# Altium integrated library Linear Technology Operational Amplifiers (LT2000-LT6000).IntLib: 1710 symbols (part 69 of 75)
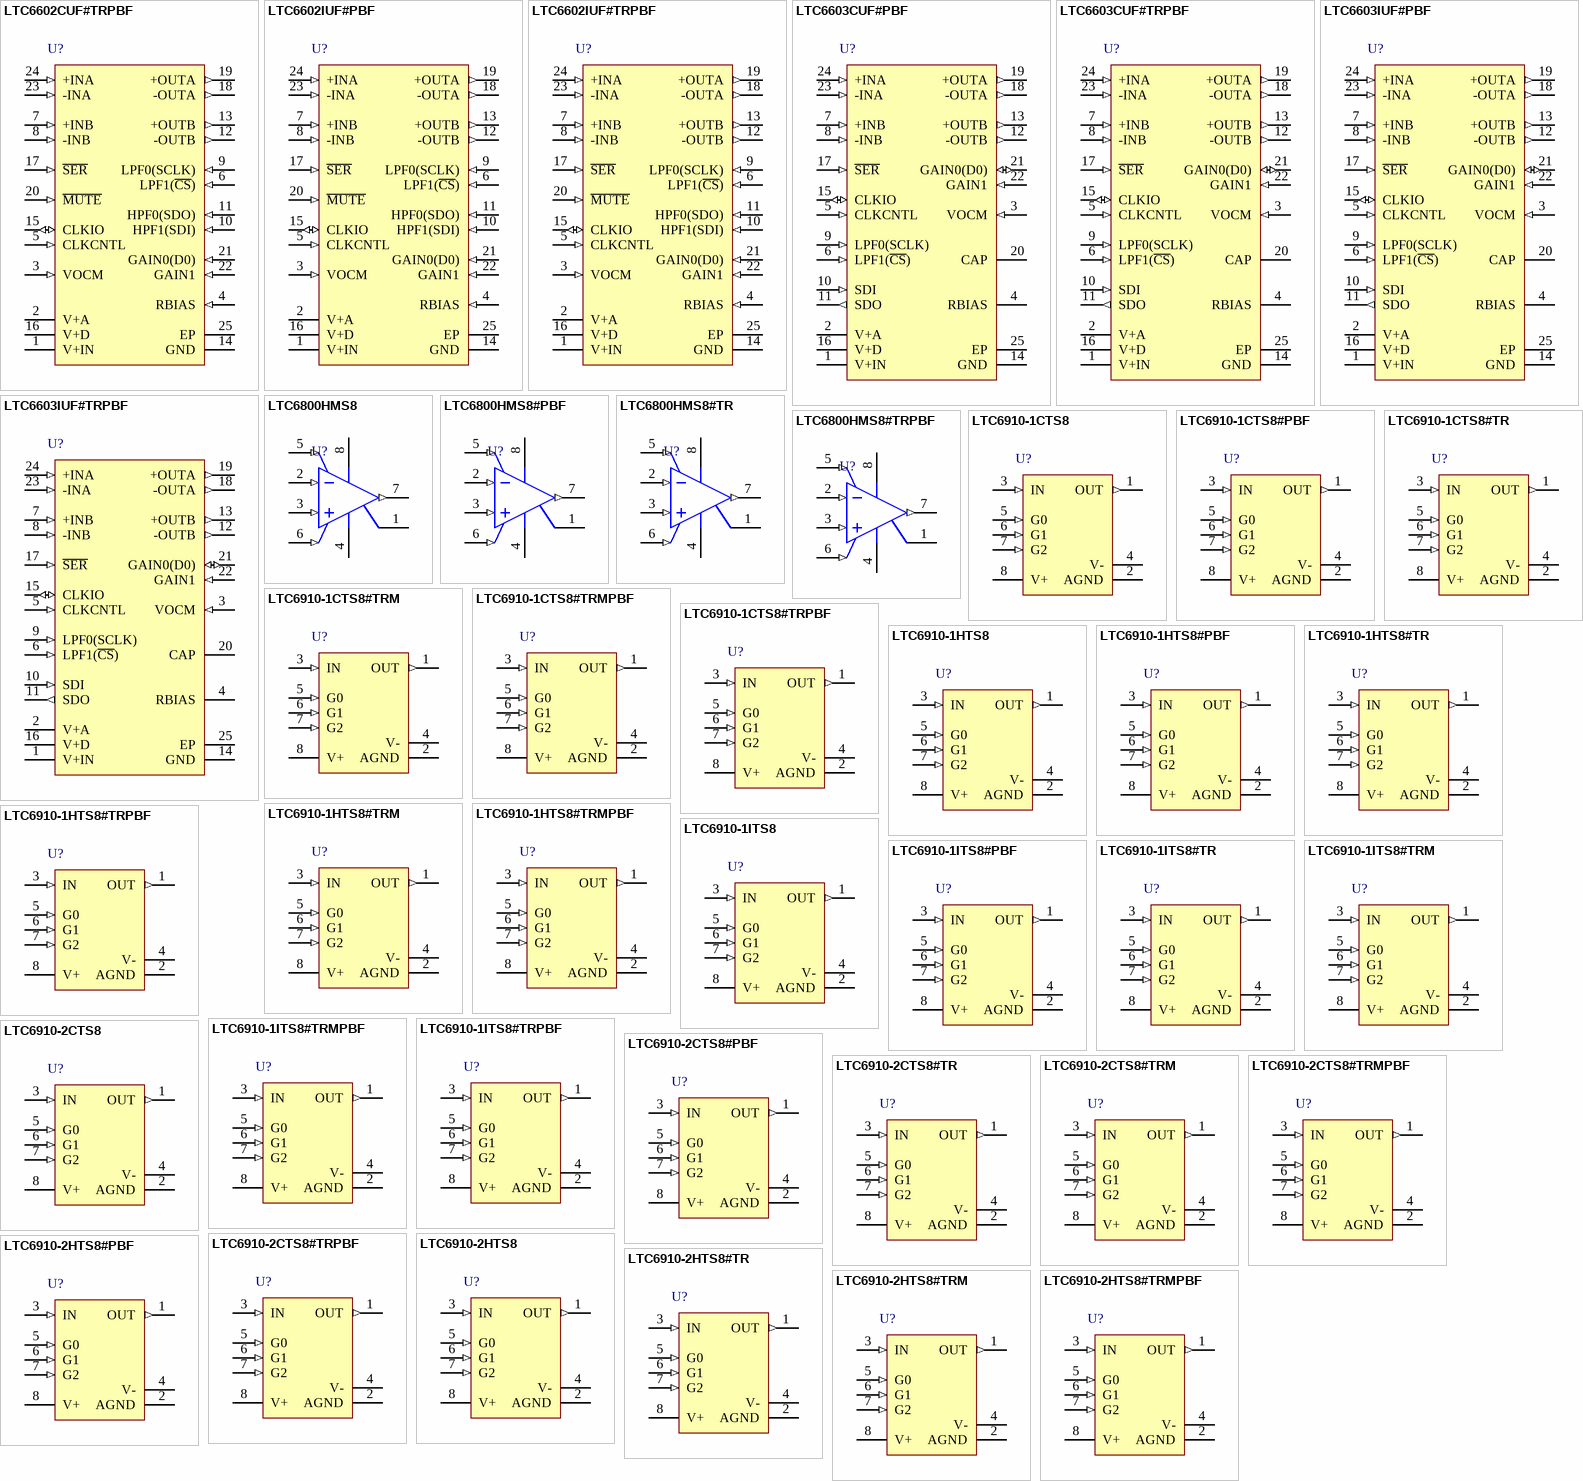
[diagram p148: symbols LTC6602CUF#TRPBF to LTC6910-2HTS8#TRMPBF]

## LTC6800HMS8#TR
designator U?
Single Channel, Zero-Drift, Instrumentation Amplifier, RRIO, 0.2 MHz Typical GBW, 0.2 V/us Typical SR, 2.7 to 5.5 V, 8-Pin SOP (MS8-8), High Temperature / Automotive, Reel; Linear Technology Part Number: LTC6800; Manufacturer: Linear Technology; PartNumber: LTC6800HMS8#TR; Channels (#): 1; GBW (MHz) Typical: 0.2; Is (mA) Typical: 0.95; Vos (mV) Typical: 0.1; Vs Max (V): 5.5; Vs Min (V): 2.7; DatasheetVersion: Rev. B; PackageVersion: Rev G; PackageReference: LT-MS8-8; PackageDescription: 8-Lead Plastic Small Outline, Body 3.9 x 4.9 mm, Pitch 1.27 mm; Supplier 1: Digi-Key; Supplier Part Number 1: LTC6800HMS8#TR-ND; Packing: Reel; SR (V/us) Typical: 0.2; Type: ZD, IA; Mounting Technology: Surface Mount; ComponentLink1Description: Manufacturer URL; ComponentLink1URL: http://www.linear.com/; ComponentLink2Description: Datasheet; ComponentLink2URL: http://cds.linear.com/docs/en/datasheet/6800fb.pdf; ComponentLink3Description: Package Specification; ComponentLink3URL: http://cds.linear.com/docs/en/packaging/05081610_G_SO8.pdf
footprint LT-MS8-8_N (SOP, 8-Leads, Body 3x3mm, Pitch 0.65mm, IPC Medium Density)
footprint LT-MS8-8_L (SOP, 8-Leads, Body 3x3mm, Pitch 0.65mm, IPC High Density)
footprint LT-MS8-8_M (SOP, 8-Leads, Body 3x3mm, Pitch 0.65mm, IPC Low Density)
pins: 1 NC "Not Connected.", 2 -IN (in) "Inverting Input.", 3 +IN (in) "Noninverting Input.", 4 V- (power) "Negative Supply.", 5 REF (in) "Voltage Reference (VREF) for Amplifier Output.", 6 RG (in) "Inverting Input of Internal Op Amp.", 7 OUT (out) "Amplifier Output.", 8 V+ (power) "Positive Supply."

## LTC6800HMS8#TRPBF
designator U?
Single Channel, Zero-Drift, Instrumentation Amplifier, RRIO, 0.2 MHz Typical GBW, 0.2 V/us Typical SR, 2.7 to 5.5 V, 8-Pin SOP (MS8-8), High Temperature / Automotive, Pb-Free, Reel; Linear Technology Part Number: LTC6800; Manufacturer: Linear Technology; PartNumber: LTC6800HMS8#TRPBF; Channels (#): 1; GBW (MHz) Typical: 0.2; Is (mA) Typical: 0.95; Vos (mV) Typical: 0.1; Vs Max (V): 5.5; Vs Min (V): 2.7; DatasheetVersion: Rev. B; PackageVersion: Rev G; PackageReference: LT-MS8-8; PackageDescription: 8-Lead Plastic Small Outline, Body 3.9 x 4.9 mm, Pitch 1.27 mm; Supplier 1: Digi-Key; Supplier Part Number 1: LTC6800HMS8#TRPBF-ND; Packing: Reel; RoHS: Pb-Free; SR (V/us) Typical: 0.2; Type: ZD, IA; Mounting Technology: Surface Mount; ComponentLink1Description: Manufacturer URL; ComponentLink1URL: http://www.linear.com/; ComponentLink2Description: Datasheet; ComponentLink2URL: http://cds.linear.com/docs/en/datasheet/6800fb.pdf; ComponentLink3Description: Package Specification; ComponentLink3URL: http://cds.linear.com/docs/en/packaging/05081610_G_SO8.pdf
footprint LT-MS8-8_N (SOP, 8-Leads, Body 3x3mm, Pitch 0.65mm, IPC Medium Density)
footprint LT-MS8-8_L (SOP, 8-Leads, Body 3x3mm, Pitch 0.65mm, IPC High Density)
footprint LT-MS8-8_M (SOP, 8-Leads, Body 3x3mm, Pitch 0.65mm, IPC Low Density)
pins: 1 NC "Not Connected.", 2 -IN (in) "Inverting Input.", 3 +IN (in) "Noninverting Input.", 4 V- (power) "Negative Supply.", 5 REF (in) "Voltage Reference (VREF) for Amplifier Output.", 6 RG (in) "Inverting Input of Internal Op Amp.", 7 OUT (out) "Amplifier Output.", 8 V+ (power) "Positive Supply."

## LTC6910-1CTS8
designator U?
Single Channel, Digitally Controlled Programmable Gain Amplifier, 11 MHz Typical GBW, 16 V/us Typical SR, 2.7 to 11 V, 8-Pin SOT23 (TS8-8), Commercial; Linear Technology Part Number: LTC6910-1; Manufacturer: Linear Technology; PartNumber: LTC6910-1CTS8; Channels (#): 1; GBW (MHz) Typical: 11; Is (mA) Typical: 2; SR (V/us) Typical: 16; Vos (mV) Typical: 3; Vs Min (V): 2.7; DatasheetVersion: Rev. A; PackageVersion: Rev A; PackageReference: LT-TS8-8-TSOT-23; PackageDescription: 8-Lead Plastic TSOT-23, Body 2.9 x 1.63 mm, Pitch 0.65 mm; Type: PGA; Vs Max (V): 11; Mounting Technology: Surface Mount; Code_JEDEC: MO-193; ComponentLink1Description: Manufacturer URL; ComponentLink1URL: http://www.linear.com/; ComponentLink2Description: Datasheet; ComponentLink2URL: http://cds.linear.com/docs/en/datasheet/6910123fa.pdf; ComponentLink3Description: Package Specification; ComponentLink3URL: http://cds.linear.com/docs/en/packaging/SOT_8_05-08-1637.pdf
footprint LT-TS8-8-TSOT-23_V (SOT23, 8-Leads, Body 2.90x1.63mm, Pitch 0.65mm, IPC High Density, Recommended)
pins: 1 OUT (out) "Analog Output. This is the output of an internal operational amplifier and swings to near the power supply rails (V+ and V-) as specified in the Electrical Characteristics table.", 2 AGND (power) "Analog Ground. The AGND pin is at the midpoint of an internal resistive voltage divider, develop- ing a potential halfway between the V+ and V- pins, with an equivalent series resistance to the pin of nominally 5k ohm.", 3 IN (in) "Analog Input. The input signal to the amplifier in the LTC6910-X is the voltage difference between the IN and AGND pins.", 4 V- (power) "Power Supply Pin.", 5 G0 (in) "CMOS-Level Digital Gain- Control Input.", 6 G1 (in) "CMOS-Level Digital Gain- Control Input.", 7 G2 (in) "CMOS-Level Digital Gain- Control Input.", 8 V+ (power) "Power Supply Pin."

## LTC6910-1CTS8#PBF
designator U?
Single Channel, Digitally Controlled Programmable Gain Amplifier, 11 MHz Typical GBW, 16 V/us Typical SR, 2.7 to 11 V, 8-Pin SOT23 (TS8-8), Commercial, Pb-Free; Linear Technology Part Number: LTC6910-1; Manufacturer: Linear Technology; PartNumber: LTC6910-1CTS8#PBF; Channels (#): 1; GBW (MHz) Typical: 11; Is (mA) Typical: 2; SR (V/us) Typical: 16; Vos (mV) Typical: 3; Vs Min (V): 2.7; DatasheetVersion: Rev. A; PackageVersion: Rev A; PackageReference: LT-TS8-8-TSOT-23; PackageDescription: 8-Lead Plastic TSOT-23, Body 2.9 x 1.63 mm, Pitch 0.65 mm; Supplier 1: Newark; Supplier Part Number 1: 69W6146; Supplier 2: Newark; Supplier Part Number 2: 05R9899; RoHS: Pb-Free; Type: PGA; Vs Max (V): 11; Mounting Technology: Surface Mount; Code_JEDEC: MO-193; ComponentLink1Description: Manufacturer URL; ComponentLink1URL: http://www.linear.com/; ComponentLink2Description: Datasheet; ComponentLink2URL: http://cds.linear.com/docs/en/datasheet/6910123fa.pdf; ComponentLink3Description: Package Specification; ComponentLink3URL: http://cds.linear.com/docs/en/packaging/SOT_8_05-08-1637.pdf
footprint LT-TS8-8-TSOT-23_V (SOT23, 8-Leads, Body 2.90x1.63mm, Pitch 0.65mm, IPC High Density, Recommended)
pins: 1 OUT (out) "Analog Output. This is the output of an internal operational amplifier and swings to near the power supply rails (V+ and V-) as specified in the Electrical Characteristics table.", 2 AGND (power) "Analog Ground. The AGND pin is at the midpoint of an internal resistive voltage divider, develop- ing a potential halfway between the V+ and V- pins, with an equivalent series resistance to the pin of nominally 5k ohm.", 3 IN (in) "Analog Input. The input signal to the amplifier in the LTC6910-X is the voltage difference between the IN and AGND pins.", 4 V- (power) "Power Supply Pin.", 5 G0 (in) "CMOS-Level Digital Gain- Control Input.", 6 G1 (in) "CMOS-Level Digital Gain- Control Input.", 7 G2 (in) "CMOS-Level Digital Gain- Control Input.", 8 V+ (power) "Power Supply Pin."

## LTC6910-1CTS8#TR
designator U?
Single Channel, Digitally Controlled Programmable Gain Amplifier, 11 MHz Typical GBW, 16 V/us Typical SR, 2.7 to 11 V, 8-Pin SOT23 (TS8-8), Commercial, Reel; Linear Technology Part Number: LTC6910-1; Manufacturer: Linear Technology; PartNumber: LTC6910-1CTS8#TR; Channels (#): 1; GBW (MHz) Typical: 11; Is (mA) Typical: 2; SR (V/us) Typical: 16; Vos (mV) Typical: 3; Vs Min (V): 2.7; DatasheetVersion: Rev. A; PackageVersion: Rev A; PackageReference: LT-TS8-8-TSOT-23; PackageDescription: 8-Lead Plastic TSOT-23, Body 2.9 x 1.63 mm, Pitch 0.65 mm; Supplier 1: Digi-Key; Supplier Part Number 1: LTC6910-1CTS8#TR-ND; Packing: Reel; Type: PGA; Vs Max (V): 11; Mounting Technology: Surface Mount; Code_JEDEC: MO-193; ComponentLink1Description: Manufacturer URL; ComponentLink1URL: http://www.linear.com/; ComponentLink2Description: Datasheet; ComponentLink2URL: http://cds.linear.com/docs/en/datasheet/6910123fa.pdf; ComponentLink3Description: Package Specification; ComponentLink3URL: http://cds.linear.com/docs/en/packaging/SOT_8_05-08-1637.pdf
footprint LT-TS8-8-TSOT-23_V (SOT23, 8-Leads, Body 2.90x1.63mm, Pitch 0.65mm, IPC High Density, Recommended)
pins: 1 OUT (out) "Analog Output. This is the output of an internal operational amplifier and swings to near the power supply rails (V+ and V-) as specified in the Electrical Characteristics table.", 2 AGND (power) "Analog Ground. The AGND pin is at the midpoint of an internal resistive voltage divider, develop- ing a potential halfway between the V+ and V- pins, with an equivalent series resistance to the pin of nominally 5k ohm.", 3 IN (in) "Analog Input. The input signal to the amplifier in the LTC6910-X is the voltage difference between the IN and AGND pins.", 4 V- (power) "Power Supply Pin.", 5 G0 (in) "CMOS-Level Digital Gain- Control Input.", 6 G1 (in) "CMOS-Level Digital Gain- Control Input.", 7 G2 (in) "CMOS-Level Digital Gain- Control Input.", 8 V+ (power) "Power Supply Pin."

## LTC6910-1CTS8#TRM
designator U?
Single Channel, Digitally Controlled Programmable Gain Amplifier, 11 MHz Typical GBW, 16 V/us Typical SR, 2.7 to 11 V, 8-Pin SOT23 (TS8-8), Commercial, Mini Reel; Linear Technology Part Number: LTC6910-1; Manufacturer: Linear Technology; PartNumber: LTC6910-1CTS8#TRM; Channels (#): 1; GBW (MHz) Typical: 11; Is (mA) Typical: 2; SR (V/us) Typical: 16; Vos (mV) Typical: 3; Vs Min (V): 2.7; DatasheetVersion: Rev. A; PackageVersion: Rev A; PackageReference: LT-TS8-8-TSOT-23; PackageDescription: 8-Lead Plastic TSOT-23, Body 2.9 x 1.63 mm, Pitch 0.65 mm; Supplier 1: Digi-Key; Supplier Part Number 1: LTC6910-1CTS8#TRMTR-ND; Supplier 2: Digi-Key; Supplier Part Number 2: LTC6910-1CTS8#TRMCT-ND; Packing: Mini Reel; Type: PGA; Vs Max (V): 11; Mounting Technology: Surface Mount; Code_JEDEC: MO-193; ComponentLink1Description: Manufacturer URL; ComponentLink1URL: http://www.linear.com/; ComponentLink2Description: Datasheet; ComponentLink2URL: http://cds.linear.com/docs/en/datasheet/6910123fa.pdf; ComponentLink3Description: Package Specification; ComponentLink3URL: http://cds.linear.com/docs/en/packaging/SOT_8_05-08-1637.pdf
footprint LT-TS8-8-TSOT-23_V (SOT23, 8-Leads, Body 2.90x1.63mm, Pitch 0.65mm, IPC High Density, Recommended)
pins: 1 OUT (out) "Analog Output. This is the output of an internal operational amplifier and swings to near the power supply rails (V+ and V-) as specified in the Electrical Characteristics table.", 2 AGND (power) "Analog Ground. The AGND pin is at the midpoint of an internal resistive voltage divider, develop- ing a potential halfway between the V+ and V- pins, with an equivalent series resistance to the pin of nominally 5k ohm.", 3 IN (in) "Analog Input. The input signal to the amplifier in the LTC6910-X is the voltage difference between the IN and AGND pins.", 4 V- (power) "Power Supply Pin.", 5 G0 (in) "CMOS-Level Digital Gain- Control Input.", 6 G1 (in) "CMOS-Level Digital Gain- Control Input.", 7 G2 (in) "CMOS-Level Digital Gain- Control Input.", 8 V+ (power) "Power Supply Pin."

## LTC6910-1CTS8#TRMPBF
designator U?
Single Channel, Digitally Controlled Programmable Gain Amplifier, 11 MHz Typical GBW, 16 V/us Typical SR, 2.7 to 11 V, 8-Pin SOT23 (TS8-8), Commercial, Pb-Free, Mini Reel; Linear Technology Part Number: LTC6910-1; Manufacturer: Linear Technology; PartNumber: LTC6910-1CTS8#TRMPBF; Channels (#): 1; GBW (MHz) Typical: 11; Is (mA) Typical: 2; SR (V/us) Typical: 16; Vos (mV) Typical: 3; Vs Min (V): 2.7; DatasheetVersion: Rev. A; PackageVersion: Rev A; PackageReference: LT-TS8-8-TSOT-23; PackageDescription: 8-Lead Plastic TSOT-23, Body 2.9 x 1.63 mm, Pitch 0.65 mm; Supplier 1: Digi-Key; Supplier Part Number 1: LTC6910-1CTS8#TRMPBFTR-ND; Supplier 2: Digi-Key; Supplier Part Number 2: LTC6910-1CTS8#TRMPBFCT-ND; Supplier 3: Digi-Key; Supplier Part Number 3: LTC6910-1CTS8#TRMPBFDKR-ND; Supplier 4: Farnell; Supplier Part Number 4: 1663930; Supplier 5: Farnell; Supplier Part Number 5: 1663930RL; Packing: Mini Reel; RoHS: Pb-Free; Type: PGA; Vs Max (V): 11; Mounting Technology: Surface Mount; Code_JEDEC: MO-193; ComponentLink1Description: Manufacturer URL; ComponentLink1URL: http://www.linear.com/; ComponentLink2Description: Datasheet; ComponentLink2URL: http://cds.linear.com/docs/en/datasheet/6910123fa.pdf; ComponentLink3Description: Package Specification; ComponentLink3URL: http://cds.linear.com/docs/en/packaging/SOT_8_05-08-1637.pdf
footprint LT-TS8-8-TSOT-23_V (SOT23, 8-Leads, Body 2.90x1.63mm, Pitch 0.65mm, IPC High Density, Recommended)
pins: 1 OUT (out) "Analog Output. This is the output of an internal operational amplifier and swings to near the power supply rails (V+ and V-) as specified in the Electrical Characteristics table.", 2 AGND (power) "Analog Ground. The AGND pin is at the midpoint of an internal resistive voltage divider, develop- ing a potential halfway between the V+ and V- pins, with an equivalent series resistance to the pin of nominally 5k ohm.", 3 IN (in) "Analog Input. The input signal to the amplifier in the LTC6910-X is the voltage difference between the IN and AGND pins.", 4 V- (power) "Power Supply Pin.", 5 G0 (in) "CMOS-Level Digital Gain- Control Input.", 6 G1 (in) "CMOS-Level Digital Gain- Control Input.", 7 G2 (in) "CMOS-Level Digital Gain- Control Input.", 8 V+ (power) "Power Supply Pin."

## LTC6910-1CTS8#TRPBF
designator U?
Single Channel, Digitally Controlled Programmable Gain Amplifier, 11 MHz Typical GBW, 16 V/us Typical SR, 2.7 to 11 V, 8-Pin SOT23 (TS8-8), Commercial, Pb-Free, Reel; Linear Technology Part Number: LTC6910-1; Manufacturer: Linear Technology; PartNumber: LTC6910-1CTS8#TRPBF; Channels (#): 1; GBW (MHz) Typical: 11; Is (mA) Typical: 2; SR (V/us) Typical: 16; Vos (mV) Typical: 3; Vs Min (V): 2.7; DatasheetVersion: Rev. A; PackageVersion: Rev A; PackageReference: LT-TS8-8-TSOT-23; PackageDescription: 8-Lead Plastic TSOT-23, Body 2.9 x 1.63 mm, Pitch 0.65 mm; Supplier 1: Digi-Key; Supplier Part Number 1: LTC6910-1CTS8#TRPBF-ND; Supplier 2: Newark; Supplier Part Number 2: 57M0331; Packing: Reel; RoHS: Pb-Free; Type: PGA; Vs Max (V): 11; Mounting Technology: Surface Mount; Code_JEDEC: MO-193; ComponentLink1Description: Manufacturer URL; ComponentLink1URL: http://www.linear.com/; ComponentLink2Description: Datasheet; ComponentLink2URL: http://cds.linear.com/docs/en/datasheet/6910123fa.pdf; ComponentLink3Description: Package Specification; ComponentLink3URL: http://cds.linear.com/docs/en/packaging/SOT_8_05-08-1637.pdf
footprint LT-TS8-8-TSOT-23_V (SOT23, 8-Leads, Body 2.90x1.63mm, Pitch 0.65mm, IPC High Density, Recommended)
pins: 1 OUT (out) "Analog Output. This is the output of an internal operational amplifier and swings to near the power supply rails (V+ and V-) as specified in the Electrical Characteristics table.", 2 AGND (power) "Analog Ground. The AGND pin is at the midpoint of an internal resistive voltage divider, develop- ing a potential halfway between the V+ and V- pins, with an equivalent series resistance to the pin of nominally 5k ohm.", 3 IN (in) "Analog Input. The input signal to the amplifier in the LTC6910-X is the voltage difference between the IN and AGND pins.", 4 V- (power) "Power Supply Pin.", 5 G0 (in) "CMOS-Level Digital Gain- Control Input.", 6 G1 (in) "CMOS-Level Digital Gain- Control Input.", 7 G2 (in) "CMOS-Level Digital Gain- Control Input.", 8 V+ (power) "Power Supply Pin."

## LTC6910-1HTS8
designator U?
Single Channel, Digitally Controlled Programmable Gain Amplifier, 11 MHz Typical GBW, 16 V/us Typical SR, 2.7 to 11 V, 8-Pin SOT23 (TS8-8), High Temperature / Automotive; Linear Technology Part Number: LTC6910-1; Manufacturer: Linear Technology; PartNumber: LTC6910-1HTS8; Channels (#): 1; GBW (MHz) Typical: 11; Is (mA) Typical: 2; SR (V/us) Typical: 16; Vos (mV) Typical: 3; Vs Min (V): 2.7; DatasheetVersion: Rev. A; PackageVersion: Rev A; PackageReference: LT-TS8-8-TSOT-23; PackageDescription: 8-Lead Plastic TSOT-23, Body 2.9 x 1.63 mm, Pitch 0.65 mm; Type: PGA; Vs Max (V): 11; Mounting Technology: Surface Mount; Code_JEDEC: MO-193; ComponentLink1Description: Manufacturer URL; ComponentLink1URL: http://www.linear.com/; ComponentLink2Description: Datasheet; ComponentLink2URL: http://cds.linear.com/docs/en/datasheet/6910123fa.pdf; ComponentLink3Description: Package Specification; ComponentLink3URL: http://cds.linear.com/docs/en/packaging/SOT_8_05-08-1637.pdf
footprint LT-TS8-8-TSOT-23_V (SOT23, 8-Leads, Body 2.90x1.63mm, Pitch 0.65mm, IPC High Density, Recommended)
pins: 1 OUT (out) "Analog Output. This is the output of an internal operational amplifier and swings to near the power supply rails (V+ and V-) as specified in the Electrical Characteristics table.", 2 AGND (power) "Analog Ground. The AGND pin is at the midpoint of an internal resistive voltage divider, develop- ing a potential halfway between the V+ and V- pins, with an equivalent series resistance to the pin of nominally 5k ohm.", 3 IN (in) "Analog Input. The input signal to the amplifier in the LTC6910-X is the voltage difference between the IN and AGND pins.", 4 V- (power) "Power Supply Pin.", 5 G0 (in) "CMOS-Level Digital Gain- Control Input.", 6 G1 (in) "CMOS-Level Digital Gain- Control Input.", 7 G2 (in) "CMOS-Level Digital Gain- Control Input.", 8 V+ (power) "Power Supply Pin."

## LTC6910-1HTS8#PBF
designator U?
Single Channel, Digitally Controlled Programmable Gain Amplifier, 11 MHz Typical GBW, 16 V/us Typical SR, 2.7 to 11 V, 8-Pin SOT23 (TS8-8), High Temperature / Automotive, Pb-Free; Linear Technology Part Number: LTC6910-1; Manufacturer: Linear Technology; PartNumber: LTC6910-1HTS8#PBF; Channels (#): 1; GBW (MHz) Typical: 11; Is (mA) Typical: 2; SR (V/us) Typical: 16; Vos (mV) Typical: 3; Vs Min (V): 2.7; DatasheetVersion: Rev. A; PackageVersion: Rev A; PackageReference: LT-TS8-8-TSOT-23; PackageDescription: 8-Lead Plastic TSOT-23, Body 2.9 x 1.63 mm, Pitch 0.65 mm; RoHS: Pb-Free; Type: PGA; Vs Max (V): 11; Mounting Technology: Surface Mount; Code_JEDEC: MO-193; ComponentLink1Description: Manufacturer URL; ComponentLink1URL: http://www.linear.com/; ComponentLink2Description: Datasheet; ComponentLink2URL: http://cds.linear.com/docs/en/datasheet/6910123fa.pdf; ComponentLink3Description: Package Specification; ComponentLink3URL: http://cds.linear.com/docs/en/packaging/SOT_8_05-08-1637.pdf
footprint LT-TS8-8-TSOT-23_V (SOT23, 8-Leads, Body 2.90x1.63mm, Pitch 0.65mm, IPC High Density, Recommended)
pins: 1 OUT (out) "Analog Output. This is the output of an internal operational amplifier and swings to near the power supply rails (V+ and V-) as specified in the Electrical Characteristics table.", 2 AGND (power) "Analog Ground. The AGND pin is at the midpoint of an internal resistive voltage divider, develop- ing a potential halfway between the V+ and V- pins, with an equivalent series resistance to the pin of nominally 5k ohm.", 3 IN (in) "Analog Input. The input signal to the amplifier in the LTC6910-X is the voltage difference between the IN and AGND pins.", 4 V- (power) "Power Supply Pin.", 5 G0 (in) "CMOS-Level Digital Gain- Control Input.", 6 G1 (in) "CMOS-Level Digital Gain- Control Input.", 7 G2 (in) "CMOS-Level Digital Gain- Control Input.", 8 V+ (power) "Power Supply Pin."

## LTC6910-1HTS8#TR
designator U?
Single Channel, Digitally Controlled Programmable Gain Amplifier, 11 MHz Typical GBW, 16 V/us Typical SR, 2.7 to 11 V, 8-Pin SOT23 (TS8-8), High Temperature / Automotive, Reel; Linear Technology Part Number: LTC6910-1; Manufacturer: Linear Technology; PartNumber: LTC6910-1HTS8#TR; Channels (#): 1; GBW (MHz) Typical: 11; Is (mA) Typical: 2; SR (V/us) Typical: 16; Vos (mV) Typical: 3; Vs Min (V): 2.7; DatasheetVersion: Rev. A; PackageVersion: Rev A; PackageReference: LT-TS8-8-TSOT-23; PackageDescription: 8-Lead Plastic TSOT-23, Body 2.9 x 1.63 mm, Pitch 0.65 mm; Supplier 1: Digi-Key; Supplier Part Number 1: LTC6910-1HTS8#TR-ND; Packing: Reel; Type: PGA; Vs Max (V): 11; Mounting Technology: Surface Mount; Code_JEDEC: MO-193; ComponentLink1Description: Manufacturer URL; ComponentLink1URL: http://www.linear.com/; ComponentLink2Description: Datasheet; ComponentLink2URL: http://cds.linear.com/docs/en/datasheet/6910123fa.pdf; ComponentLink3Description: Package Specification; ComponentLink3URL: http://cds.linear.com/docs/en/packaging/SOT_8_05-08-1637.pdf
footprint LT-TS8-8-TSOT-23_V (SOT23, 8-Leads, Body 2.90x1.63mm, Pitch 0.65mm, IPC High Density, Recommended)
pins: 1 OUT (out) "Analog Output. This is the output of an internal operational amplifier and swings to near the power supply rails (V+ and V-) as specified in the Electrical Characteristics table.", 2 AGND (power) "Analog Ground. The AGND pin is at the midpoint of an internal resistive voltage divider, develop- ing a potential halfway between the V+ and V- pins, with an equivalent series resistance to the pin of nominally 5k ohm.", 3 IN (in) "Analog Input. The input signal to the amplifier in the LTC6910-X is the voltage difference between the IN and AGND pins.", 4 V- (power) "Power Supply Pin.", 5 G0 (in) "CMOS-Level Digital Gain- Control Input.", 6 G1 (in) "CMOS-Level Digital Gain- Control Input.", 7 G2 (in) "CMOS-Level Digital Gain- Control Input.", 8 V+ (power) "Power Supply Pin."

## LTC6910-1HTS8#TRM
designator U?
Single Channel, Digitally Controlled Programmable Gain Amplifier, 11 MHz Typical GBW, 16 V/us Typical SR, 2.7 to 11 V, 8-Pin SOT23 (TS8-8), High Temperature / Automotive, Mini Reel; Linear Technology Part Number: LTC6910-1; Manufacturer: Linear Technology; PartNumber: LTC6910-1HTS8#TRM; Channels (#): 1; GBW (MHz) Typical: 11; Is (mA) Typical: 2; SR (V/us) Typical: 16; Vos (mV) Typical: 3; Vs Min (V): 2.7; DatasheetVersion: Rev. A; PackageVersion: Rev A; PackageReference: LT-TS8-8-TSOT-23; PackageDescription: 8-Lead Plastic TSOT-23, Body 2.9 x 1.63 mm, Pitch 0.65 mm; Supplier 1: Digi-Key; Supplier Part Number 1: LTC6910-1HTS8#TRM-ND; Packing: Mini Reel; Type: PGA; Vs Max (V): 11; Mounting Technology: Surface Mount; Code_JEDEC: MO-193; ComponentLink1Description: Manufacturer URL; ComponentLink1URL: http://www.linear.com/; ComponentLink2Description: Datasheet; ComponentLink2URL: http://cds.linear.com/docs/en/datasheet/6910123fa.pdf; ComponentLink3Description: Package Specification; ComponentLink3URL: http://cds.linear.com/docs/en/packaging/SOT_8_05-08-1637.pdf
footprint LT-TS8-8-TSOT-23_V (SOT23, 8-Leads, Body 2.90x1.63mm, Pitch 0.65mm, IPC High Density, Recommended)
pins: 1 OUT (out) "Analog Output. This is the output of an internal operational amplifier and swings to near the power supply rails (V+ and V-) as specified in the Electrical Characteristics table.", 2 AGND (power) "Analog Ground. The AGND pin is at the midpoint of an internal resistive voltage divider, develop- ing a potential halfway between the V+ and V- pins, with an equivalent series resistance to the pin of nominally 5k ohm.", 3 IN (in) "Analog Input. The input signal to the amplifier in the LTC6910-X is the voltage difference between the IN and AGND pins.", 4 V- (power) "Power Supply Pin.", 5 G0 (in) "CMOS-Level Digital Gain- Control Input.", 6 G1 (in) "CMOS-Level Digital Gain- Control Input.", 7 G2 (in) "CMOS-Level Digital Gain- Control Input.", 8 V+ (power) "Power Supply Pin."

## LTC6910-1HTS8#TRMPBF
designator U?
Single Channel, Digitally Controlled Programmable Gain Amplifier, 11 MHz Typical GBW, 16 V/us Typical SR, 2.7 to 11 V, 8-Pin SOT23 (TS8-8), High Temperature / Automotive, Pb-Free, Mini Reel; Linear Technology Part Number: LTC6910-1; Manufacturer: Linear Technology; PartNumber: LTC6910-1HTS8#TRMPBF; Channels (#): 1; GBW (MHz) Typical: 11; Is (mA) Typical: 2; SR (V/us) Typical: 16; Vos (mV) Typical: 3; Vs Min (V): 2.7; DatasheetVersion: Rev. A; PackageVersion: Rev A; PackageReference: LT-TS8-8-TSOT-23; PackageDescription: 8-Lead Plastic TSOT-23, Body 2.9 x 1.63 mm, Pitch 0.65 mm; Supplier 1: Digi-Key; Supplier Part Number 1: LTC6910-1HTS8#TRMPBF-ND; Packing: Mini Reel; RoHS: Pb-Free; Type: PGA; Vs Max (V): 11; Mounting Technology: Surface Mount; Code_JEDEC: MO-193; ComponentLink1Description: Manufacturer URL; ComponentLink1URL: http://www.linear.com/; ComponentLink2Description: Datasheet; ComponentLink2URL: http://cds.linear.com/docs/en/datasheet/6910123fa.pdf; ComponentLink3Description: Package Specification; ComponentLink3URL: http://cds.linear.com/docs/en/packaging/SOT_8_05-08-1637.pdf
footprint LT-TS8-8-TSOT-23_V (SOT23, 8-Leads, Body 2.90x1.63mm, Pitch 0.65mm, IPC High Density, Recommended)
pins: 1 OUT (out) "Analog Output. This is the output of an internal operational amplifier and swings to near the power supply rails (V+ and V-) as specified in the Electrical Characteristics table.", 2 AGND (power) "Analog Ground. The AGND pin is at the midpoint of an internal resistive voltage divider, develop- ing a potential halfway between the V+ and V- pins, with an equivalent series resistance to the pin of nominally 5k ohm.", 3 IN (in) "Analog Input. The input signal to the amplifier in the LTC6910-X is the voltage difference between the IN and AGND pins.", 4 V- (power) "Power Supply Pin.", 5 G0 (in) "CMOS-Level Digital Gain- Control Input.", 6 G1 (in) "CMOS-Level Digital Gain- Control Input.", 7 G2 (in) "CMOS-Level Digital Gain- Control Input.", 8 V+ (power) "Power Supply Pin."

## LTC6910-1HTS8#TRPBF
designator U?
Single Channel, Digitally Controlled Programmable Gain Amplifier, 11 MHz Typical GBW, 16 V/us Typical SR, 2.7 to 11 V, 8-Pin SOT23 (TS8-8), High Temperature / Automotive, Pb-Free, Reel; Linear Technology Part Number: LTC6910-1; Manufacturer: Linear Technology; PartNumber: LTC6910-1HTS8#TRPBF; Channels (#): 1; GBW (MHz) Typical: 11; Is (mA) Typical: 2; SR (V/us) Typical: 16; Vos (mV) Typical: 3; Vs Min (V): 2.7; DatasheetVersion: Rev. A; PackageVersion: Rev A; PackageReference: LT-TS8-8-TSOT-23; PackageDescription: 8-Lead Plastic TSOT-23, Body 2.9 x 1.63 mm, Pitch 0.65 mm; Supplier 1: Digi-Key; Supplier Part Number 1: LTC6910-1HTS8#TRPBF-ND; Packing: Reel; RoHS: Pb-Free; Type: PGA; Vs Max (V): 11; Mounting Technology: Surface Mount; Code_JEDEC: MO-193; ComponentLink1Description: Manufacturer URL; ComponentLink1URL: http://www.linear.com/; ComponentLink2Description: Datasheet; ComponentLink2URL: http://cds.linear.com/docs/en/datasheet/6910123fa.pdf; ComponentLink3Description: Package Specification; ComponentLink3URL: http://cds.linear.com/docs/en/packaging/SOT_8_05-08-1637.pdf
footprint LT-TS8-8-TSOT-23_V (SOT23, 8-Leads, Body 2.90x1.63mm, Pitch 0.65mm, IPC High Density, Recommended)
pins: 1 OUT (out) "Analog Output. This is the output of an internal operational amplifier and swings to near the power supply rails (V+ and V-) as specified in the Electrical Characteristics table.", 2 AGND (power) "Analog Ground. The AGND pin is at the midpoint of an internal resistive voltage divider, develop- ing a potential halfway between the V+ and V- pins, with an equivalent series resistance to the pin of nominally 5k ohm.", 3 IN (in) "Analog Input. The input signal to the amplifier in the LTC6910-X is the voltage difference between the IN and AGND pins.", 4 V- (power) "Power Supply Pin.", 5 G0 (in) "CMOS-Level Digital Gain- Control Input.", 6 G1 (in) "CMOS-Level Digital Gain- Control Input.", 7 G2 (in) "CMOS-Level Digital Gain- Control Input.", 8 V+ (power) "Power Supply Pin."

## LTC6910-1ITS8
designator U?
Single Channel, Digitally Controlled Programmable Gain Amplifier, 11 MHz Typical GBW, 16 V/us Typical SR, 2.7 to 11 V, 8-Pin SOT23 (TS8-8), Industrial; Linear Technology Part Number: LTC6910-1; Manufacturer: Linear Technology; PartNumber: LTC6910-1ITS8; Channels (#): 1; GBW (MHz) Typical: 11; Is (mA) Typical: 2; SR (V/us) Typical: 16; Vos (mV) Typical: 3; Vs Min (V): 2.7; DatasheetVersion: Rev. A; PackageVersion: Rev A; PackageReference: LT-TS8-8-TSOT-23; PackageDescription: 8-Lead Plastic TSOT-23, Body 2.9 x 1.63 mm, Pitch 0.65 mm; Type: PGA; Vs Max (V): 11; Mounting Technology: Surface Mount; Code_JEDEC: MO-193; ComponentLink1Description: Manufacturer URL; ComponentLink1URL: http://www.linear.com/; ComponentLink2Description: Datasheet; ComponentLink2URL: http://cds.linear.com/docs/en/datasheet/6910123fa.pdf; ComponentLink3Description: Package Specification; ComponentLink3URL: http://cds.linear.com/docs/en/packaging/SOT_8_05-08-1637.pdf
footprint LT-TS8-8-TSOT-23_V (SOT23, 8-Leads, Body 2.90x1.63mm, Pitch 0.65mm, IPC High Density, Recommended)
pins: 1 OUT (out) "Analog Output. This is the output of an internal operational amplifier and swings to near the power supply rails (V+ and V-) as specified in the Electrical Characteristics table.", 2 AGND (power) "Analog Ground. The AGND pin is at the midpoint of an internal resistive voltage divider, develop- ing a potential halfway between the V+ and V- pins, with an equivalent series resistance to the pin of nominally 5k ohm.", 3 IN (in) "Analog Input. The input signal to the amplifier in the LTC6910-X is the voltage difference between the IN and AGND pins.", 4 V- (power) "Power Supply Pin.", 5 G0 (in) "CMOS-Level Digital Gain- Control Input.", 6 G1 (in) "CMOS-Level Digital Gain- Control Input.", 7 G2 (in) "CMOS-Level Digital Gain- Control Input.", 8 V+ (power) "Power Supply Pin."

## LTC6910-1ITS8#PBF
designator U?
Single Channel, Digitally Controlled Programmable Gain Amplifier, 11 MHz Typical GBW, 16 V/us Typical SR, 2.7 to 11 V, 8-Pin SOP (TS8-8), Industrial, Pb-Free; Linear Technology Part Number: LTC6910-1; Manufacturer: Linear Technology; PartNumber: LTC6910-1ITS8#PBF; Channels (#): 1; GBW (MHz) Typical: 11; Is (mA) Typical: 2; SR (V/us) Typical: 16; Vos (mV) Typical: 3; Vs Min (V): 2.7; DatasheetVersion: Rev. A; PackageVersion: Rev A; PackageReference: LT-TS8-8-TSOT-23; PackageDescription: 8-Lead Plastic TSOT-23, Body 2.9 x 1.63 mm, Pitch 0.65 mm; Supplier 1: Farnell; Supplier Part Number 1: 2308171; Supplier 2: Newark; Supplier Part Number 2: 78T3518; RoHS: Pb-Free; Type: PGA; Vs Max (V): 11; Mounting Technology: Surface Mount; Code_JEDEC: MO-193; ComponentLink1Description: Manufacturer URL; ComponentLink1URL: http://www.linear.com/; ComponentLink2Description: Datasheet; ComponentLink2URL: http://cds.linear.com/docs/en/datasheet/6910123fa.pdf; ComponentLink3Description: Package Specification; ComponentLink3URL: http://cds.linear.com/docs/en/packaging/SOT_8_05-08-1637.pdf
footprint LT-TS8-8-TSOT-23_V (SOT23, 8-Leads, Body 2.90x1.63mm, Pitch 0.65mm, IPC High Density, Recommended)
pins: 1 OUT (out) "Analog Output. This is the output of an internal operational amplifier and swings to near the power supply rails (V+ and V-) as specified in the Electrical Characteristics table.", 2 AGND (power) "Analog Ground. The AGND pin is at the midpoint of an internal resistive voltage divider, develop- ing a potential halfway between the V+ and V- pins, with an equivalent series resistance to the pin of nominally 5k ohm.", 3 IN (in) "Analog Input. The input signal to the amplifier in the LTC6910-X is the voltage difference between the IN and AGND pins.", 4 V- (power) "Power Supply Pin.", 5 G0 (in) "CMOS-Level Digital Gain- Control Input.", 6 G1 (in) "CMOS-Level Digital Gain- Control Input.", 7 G2 (in) "CMOS-Level Digital Gain- Control Input.", 8 V+ (power) "Power Supply Pin."

## LTC6910-1ITS8#TR
designator U?
Single Channel, Digitally Controlled Programmable Gain Amplifier, 11 MHz Typical GBW, 16 V/us Typical SR, 2.7 to 11 V, 8-Pin SOP (TS8-8), Industrial, Reel; Linear Technology Part Number: LTC6910-1; Manufacturer: Linear Technology; PartNumber: LTC6910-1ITS8#TR; Channels (#): 1; GBW (MHz) Typical: 11; Is (mA) Typical: 2; SR (V/us) Typical: 16; Vos (mV) Typical: 3; Vs Min (V): 2.7; DatasheetVersion: Rev. A; PackageVersion: Rev A; PackageReference: LT-TS8-8-TSOT-23; PackageDescription: 8-Lead Plastic TSOT-23, Body 2.9 x 1.63 mm, Pitch 0.65 mm; Supplier 1: Digi-Key; Supplier Part Number 1: LTC6910-1ITS8#TR-ND; Packing: Reel; Type: PGA; Vs Max (V): 11; Mounting Technology: Surface Mount; Code_JEDEC: MO-193; ComponentLink1Description: Manufacturer URL; ComponentLink1URL: http://www.linear.com/; ComponentLink2Description: Datasheet; ComponentLink2URL: http://cds.linear.com/docs/en/datasheet/6910123fa.pdf; ComponentLink3Description: Package Specification; ComponentLink3URL: http://cds.linear.com/docs/en/packaging/SOT_8_05-08-1637.pdf
footprint LT-TS8-8-TSOT-23_V (SOT23, 8-Leads, Body 2.90x1.63mm, Pitch 0.65mm, IPC High Density, Recommended)
pins: 1 OUT (out) "Analog Output. This is the output of an internal operational amplifier and swings to near the power supply rails (V+ and V-) as specified in the Electrical Characteristics table.", 2 AGND (power) "Analog Ground. The AGND pin is at the midpoint of an internal resistive voltage divider, develop- ing a potential halfway between the V+ and V- pins, with an equivalent series resistance to the pin of nominally 5k ohm.", 3 IN (in) "Analog Input. The input signal to the amplifier in the LTC6910-X is the voltage difference between the IN and AGND pins.", 4 V- (power) "Power Supply Pin.", 5 G0 (in) "CMOS-Level Digital Gain- Control Input.", 6 G1 (in) "CMOS-Level Digital Gain- Control Input.", 7 G2 (in) "CMOS-Level Digital Gain- Control Input.", 8 V+ (power) "Power Supply Pin."

## LTC6910-1ITS8#TRM
designator U?
Single Channel, Digitally Controlled Programmable Gain Amplifier, 11 MHz Typical GBW, 16 V/us Typical SR, 2.7 to 11 V, 8-Pin SOP (TS8-8), Industrial, Mini Reel; Linear Technology Part Number: LTC6910-1; Manufacturer: Linear Technology; PartNumber: LTC6910-1ITS8#TRM; Channels (#): 1; GBW (MHz) Typical: 11; Is (mA) Typical: 2; SR (V/us) Typical: 16; Vos (mV) Typical: 3; Vs Min (V): 2.7; DatasheetVersion: Rev. A; PackageVersion: Rev A; PackageReference: LT-TS8-8-TSOT-23; PackageDescription: 8-Lead Plastic TSOT-23, Body 2.9 x 1.63 mm, Pitch 0.65 mm; Supplier 1: Digi-Key; Supplier Part Number 1: LTC6910-1ITS8#TRM-ND; Packing: Mini Reel; Type: PGA; Vs Max (V): 11; Mounting Technology: Surface Mount; Code_JEDEC: MO-193; ComponentLink1Description: Manufacturer URL; ComponentLink1URL: http://www.linear.com/; ComponentLink2Description: Datasheet; ComponentLink2URL: http://cds.linear.com/docs/en/datasheet/6910123fa.pdf; ComponentLink3Description: Package Specification; ComponentLink3URL: http://cds.linear.com/docs/en/packaging/SOT_8_05-08-1637.pdf
footprint LT-TS8-8-TSOT-23_V (SOT23, 8-Leads, Body 2.90x1.63mm, Pitch 0.65mm, IPC High Density, Recommended)
pins: 1 OUT (out) "Analog Output. This is the output of an internal operational amplifier and swings to near the power supply rails (V+ and V-) as specified in the Electrical Characteristics table.", 2 AGND (power) "Analog Ground. The AGND pin is at the midpoint of an internal resistive voltage divider, develop- ing a potential halfway between the V+ and V- pins, with an equivalent series resistance to the pin of nominally 5k ohm.", 3 IN (in) "Analog Input. The input signal to the amplifier in the LTC6910-X is the voltage difference between the IN and AGND pins.", 4 V- (power) "Power Supply Pin.", 5 G0 (in) "CMOS-Level Digital Gain- Control Input.", 6 G1 (in) "CMOS-Level Digital Gain- Control Input.", 7 G2 (in) "CMOS-Level Digital Gain- Control Input.", 8 V+ (power) "Power Supply Pin."

## LTC6910-1ITS8#TRMPBF
designator U?
Single Channel, Digitally Controlled Programmable Gain Amplifier, 11 MHz Typical GBW, 16 V/us Typical SR, 2.7 to 11 V, 8-Pin SOP (TS8-8), Industrial, Pb-Free, Mini Reel; Linear Technology Part Number: LTC6910-1; Manufacturer: Linear Technology; PartNumber: LTC6910-1ITS8#TRMPBF; Channels (#): 1; GBW (MHz) Typical: 11; Is (mA) Typical: 2; SR (V/us) Typical: 16; Vos (mV) Typical: 3; Vs Min (V): 2.7; DatasheetVersion: Rev. A; PackageVersion: Rev A; PackageReference: LT-TS8-8-TSOT-23; PackageDescription: 8-Lead Plastic TSOT-23, Body 2.9 x 1.63 mm, Pitch 0.65 mm; Supplier 1: Digi-Key; Supplier Part Number 1: LTC6910-1ITS8#TRMPBFTR-ND; Supplier 2: Digi-Key; Supplier Part Number 2: LTC6910-1ITS8#TRMPBFCT-ND; Supplier 3: Digi-Key; Supplier Part Number 3: LTC6910-1ITS8#TRMPBFDKR-ND; Supplier 4: Newark; Supplier Part Number 4: 57M0338; Packing: Mini Reel; RoHS: Pb-Free; Type: PGA; Vs Max (V): 11; Mounting Technology: Surface Mount; Code_JEDEC: MO-193; ComponentLink1Description: Manufacturer URL; ComponentLink1URL: http://www.linear.com/; ComponentLink2Description: Datasheet; ComponentLink2URL: http://cds.linear.com/docs/en/datasheet/6910123fa.pdf; ComponentLink3Description: Package Specification; ComponentLink3URL: http://cds.linear.com/docs/en/packaging/SOT_8_05-08-1637.pdf
footprint LT-TS8-8-TSOT-23_V (SOT23, 8-Leads, Body 2.90x1.63mm, Pitch 0.65mm, IPC High Density, Recommended)
pins: 1 OUT (out) "Analog Output. This is the output of an internal operational amplifier and swings to near the power supply rails (V+ and V-) as specified in the Electrical Characteristics table.", 2 AGND (power) "Analog Ground. The AGND pin is at the midpoint of an internal resistive voltage divider, develop- ing a potential halfway between the V+ and V- pins, with an equivalent series resistance to the pin of nominally 5k ohm.", 3 IN (in) "Analog Input. The input signal to the amplifier in the LTC6910-X is the voltage difference between the IN and AGND pins.", 4 V- (power) "Power Supply Pin.", 5 G0 (in) "CMOS-Level Digital Gain- Control Input.", 6 G1 (in) "CMOS-Level Digital Gain- Control Input.", 7 G2 (in) "CMOS-Level Digital Gain- Control Input.", 8 V+ (power) "Power Supply Pin."

## LTC6910-1ITS8#TRPBF
designator U?
Single Channel, Digitally Controlled Programmable Gain Amplifier, 11 MHz Typical GBW, 16 V/us Typical SR, 2.7 to 11 V, 8-Pin SOT23 (TS8-8), Industrial, Pb-Free, Reel; Linear Technology Part Number: LTC6910-1; Manufacturer: Linear Technology; PartNumber: LTC6910-1ITS8#TRPBF; Channels (#): 1; GBW (MHz) Typical: 11; Is (mA) Typical: 2; SR (V/us) Typical: 16; Vos (mV) Typical: 3; Vs Min (V): 2.7; DatasheetVersion: Rev. A; PackageVersion: Rev A; PackageReference: LT-TS8-8-TSOT-23; PackageDescription: 8-Lead Plastic TSOT-23, Body 2.9 x 1.63 mm, Pitch 0.65 mm; Supplier 1: Digi-Key; Supplier Part Number 1: LTC6910-1ITS8#TRPBF-ND; Packing: Reel; RoHS: Pb-Free; Type: PGA; Vs Max (V): 11; Mounting Technology: Surface Mount; Code_JEDEC: MO-193; ComponentLink1Description: Manufacturer URL; ComponentLink1URL: http://www.linear.com/; ComponentLink2Description: Datasheet; ComponentLink2URL: http://cds.linear.com/docs/en/datasheet/6910123fa.pdf; ComponentLink3Description: Package Specification; ComponentLink3URL: http://cds.linear.com/docs/en/packaging/SOT_8_05-08-1637.pdf
footprint LT-TS8-8-TSOT-23_V (SOT23, 8-Leads, Body 2.90x1.63mm, Pitch 0.65mm, IPC High Density, Recommended)
pins: 1 OUT (out) "Analog Output. This is the output of an internal operational amplifier and swings to near the power supply rails (V+ and V-) as specified in the Electrical Characteristics table.", 2 AGND (power) "Analog Ground. The AGND pin is at the midpoint of an internal resistive voltage divider, develop- ing a potential halfway between the V+ and V- pins, with an equivalent series resistance to the pin of nominally 5k ohm.", 3 IN (in) "Analog Input. The input signal to the amplifier in the LTC6910-X is the voltage difference between the IN and AGND pins.", 4 V- (power) "Power Supply Pin.", 5 G0 (in) "CMOS-Level Digital Gain- Control Input.", 6 G1 (in) "CMOS-Level Digital Gain- Control Input.", 7 G2 (in) "CMOS-Level Digital Gain- Control Input.", 8 V+ (power) "Power Supply Pin."

## LTC6910-2CTS8
designator U?
Single Channel, Digitally Controlled Programmable Gain Amplifier, 11 MHz Typical GBW, 16 V/us Typical SR, 2.7 to 11 V, 8-Pin SOT23 (TS8-8), Commercial; Linear Technology Part Number: LTC6910-2; Manufacturer: Linear Technology; PartNumber: LTC6910-2CTS8; Channels (#): 1; GBW (MHz) Typical: 11; Is (mA) Typical: 2; SR (V/us) Typical: 16; Vos (mV) Typical: 3; Vs Min (V): 2.7; DatasheetVersion: Rev. A; PackageVersion: Rev A; PackageReference: LT-TS8-8-TSOT-23; PackageDescription: 8-Lead Plastic TSOT-23, Body 2.9 x 1.63 mm, Pitch 0.65 mm; Type: PGA; Vs Max (V): 11; Mounting Technology: Surface Mount; Code_JEDEC: MO-193; ComponentLink1Description: Manufacturer URL; ComponentLink1URL: http://www.linear.com/; ComponentLink2Description: Datasheet; ComponentLink2URL: http://cds.linear.com/docs/en/datasheet/6910123fa.pdf; ComponentLink3Description: Package Specification; ComponentLink3URL: http://cds.linear.com/docs/en/packaging/SOT_8_05-08-1637.pdf
footprint LT-TS8-8-TSOT-23_V (SOT23, 8-Leads, Body 2.90x1.63mm, Pitch 0.65mm, IPC High Density, Recommended)
pins: 1 OUT (out) "Analog Output. This is the output of an internal operational amplifier and swings to near the power supply rails (V+ and V-) as specified in the Electrical Characteristics table.", 2 AGND (power) "Analog Ground. The AGND pin is at the midpoint of an internal resistive voltage divider, develop- ing a potential halfway between the V+ and V- pins, with an equivalent series resistance to the pin of nominally 5k ohm.", 3 IN (in) "Analog Input. The input signal to the amplifier in the LTC6910-X is the voltage difference between the IN and AGND pins.", 4 V- (power) "Power Supply Pin.", 5 G0 (in) "CMOS-Level Digital Gain- Control Input.", 6 G1 (in) "CMOS-Level Digital Gain- Control Input.", 7 G2 (in) "CMOS-Level Digital Gain- Control Input.", 8 V+ (power) "Power Supply Pin."

## LTC6910-2CTS8#PBF
designator U?
Single Channel, Digitally Controlled Programmable Gain Amplifier, 11 MHz Typical GBW, 16 V/us Typical SR, 2.7 to 11 V, 8-Pin SOT23 (TS8-8), Commercial, Pb-Free; Linear Technology Part Number: LTC6910-2; Manufacturer: Linear Technology; PartNumber: LTC6910-2CTS8#PBF; Channels (#): 1; GBW (MHz) Typical: 11; Is (mA) Typical: 2; SR (V/us) Typical: 16; Vos (mV) Typical: 3; Vs Min (V): 2.7; DatasheetVersion: Rev. A; PackageVersion: Rev A; PackageReference: LT-TS8-8-TSOT-23; PackageDescription: 8-Lead Plastic TSOT-23, Body 2.9 x 1.63 mm, Pitch 0.65 mm; Supplier 1: Newark; Supplier Part Number 1: 78T3519; RoHS: Pb-Free; Type: PGA; Vs Max (V): 11; Mounting Technology: Surface Mount; Code_JEDEC: MO-193; ComponentLink1Description: Manufacturer URL; ComponentLink1URL: http://www.linear.com/; ComponentLink2Description: Datasheet; ComponentLink2URL: http://cds.linear.com/docs/en/datasheet/6910123fa.pdf; ComponentLink3Description: Package Specification; ComponentLink3URL: http://cds.linear.com/docs/en/packaging/SOT_8_05-08-1637.pdf
footprint LT-TS8-8-TSOT-23_V (SOT23, 8-Leads, Body 2.90x1.63mm, Pitch 0.65mm, IPC High Density, Recommended)
pins: 1 OUT (out) "Analog Output. This is the output of an internal operational amplifier and swings to near the power supply rails (V+ and V-) as specified in the Electrical Characteristics table.", 2 AGND (power) "Analog Ground. The AGND pin is at the midpoint of an internal resistive voltage divider, develop- ing a potential halfway between the V+ and V- pins, with an equivalent series resistance to the pin of nominally 5k ohm.", 3 IN (in) "Analog Input. The input signal to the amplifier in the LTC6910-X is the voltage difference between the IN and AGND pins.", 4 V- (power) "Power Supply Pin.", 5 G0 (in) "CMOS-Level Digital Gain- Control Input.", 6 G1 (in) "CMOS-Level Digital Gain- Control Input.", 7 G2 (in) "CMOS-Level Digital Gain- Control Input.", 8 V+ (power) "Power Supply Pin."

## LTC6910-2CTS8#TR
designator U?
Single Channel, Digitally Controlled Programmable Gain Amplifier, 11 MHz Typical GBW, 16 V/us Typical SR, 2.7 to 11 V, 8-Pin SOT23 (TS8-8), Commercial, Reel; Linear Technology Part Number: LTC6910-2; Manufacturer: Linear Technology; PartNumber: LTC6910-2CTS8#TR; Channels (#): 1; GBW (MHz) Typical: 11; Is (mA) Typical: 2; SR (V/us) Typical: 16; Vos (mV) Typical: 3; Vs Min (V): 2.7; DatasheetVersion: Rev. A; PackageVersion: Rev A; PackageReference: LT-TS8-8-TSOT-23; PackageDescription: 8-Lead Plastic TSOT-23, Body 2.9 x 1.63 mm, Pitch 0.65 mm; Supplier 1: Digi-Key; Supplier Part Number 1: LTC6910-2CTS8#TR-ND; Packing: Reel; Type: PGA; Vs Max (V): 11; Mounting Technology: Surface Mount; Code_JEDEC: MO-193; ComponentLink1Description: Manufacturer URL; ComponentLink1URL: http://www.linear.com/; ComponentLink2Description: Datasheet; ComponentLink2URL: http://cds.linear.com/docs/en/datasheet/6910123fa.pdf; ComponentLink3Description: Package Specification; ComponentLink3URL: http://cds.linear.com/docs/en/packaging/SOT_8_05-08-1637.pdf
footprint LT-TS8-8-TSOT-23_V (SOT23, 8-Leads, Body 2.90x1.63mm, Pitch 0.65mm, IPC High Density, Recommended)
pins: 1 OUT (out) "Analog Output. This is the output of an internal operational amplifier and swings to near the power supply rails (V+ and V-) as specified in the Electrical Characteristics table.", 2 AGND (power) "Analog Ground. The AGND pin is at the midpoint of an internal resistive voltage divider, develop- ing a potential halfway between the V+ and V- pins, with an equivalent series resistance to the pin of nominally 5k ohm.", 3 IN (in) "Analog Input. The input signal to the amplifier in the LTC6910-X is the voltage difference between the IN and AGND pins.", 4 V- (power) "Power Supply Pin.", 5 G0 (in) "CMOS-Level Digital Gain- Control Input.", 6 G1 (in) "CMOS-Level Digital Gain- Control Input.", 7 G2 (in) "CMOS-Level Digital Gain- Control Input.", 8 V+ (power) "Power Supply Pin."

## LTC6910-2CTS8#TRM
designator U?
Single Channel, Digitally Controlled Programmable Gain Amplifier, 11 MHz Typical GBW, 16 V/us Typical SR, 2.7 to 11 V, 8-Pin SOT23 (TS8-8), Commercial, Mini Reel; Linear Technology Part Number: LTC6910-2; Manufacturer: Linear Technology; PartNumber: LTC6910-2CTS8#TRM; Channels (#): 1; GBW (MHz) Typical: 11; Is (mA) Typical: 2; SR (V/us) Typical: 16; Vos (mV) Typical: 3; Vs Min (V): 2.7; DatasheetVersion: Rev. A; PackageVersion: Rev A; PackageReference: LT-TS8-8-TSOT-23; PackageDescription: 8-Lead Plastic TSOT-23, Body 2.9 x 1.63 mm, Pitch 0.65 mm; Supplier 1: Digi-Key; Supplier Part Number 1: LTC6910-2CTS8#TRMTR-ND; Supplier 2: Digi-Key; Supplier Part Number 2: LTC6910-2CTS8#TRMCT-ND; Supplier 3: Digi-Key; Supplier Part Number 3: LTC6910-2CTS8#TRMDKR-ND; Packing: Mini Reel; Type: PGA; Vs Max (V): 11; Mounting Technology: Surface Mount; Code_JEDEC: MO-193; ComponentLink1Description: Manufacturer URL; ComponentLink1URL: http://www.linear.com/; ComponentLink2Description: Datasheet; ComponentLink2URL: http://cds.linear.com/docs/en/datasheet/6910123fa.pdf; ComponentLink3Description: Package Specification; ComponentLink3URL: http://cds.linear.com/docs/en/packaging/SOT_8_05-08-1637.pdf
footprint LT-TS8-8-TSOT-23_V (SOT23, 8-Leads, Body 2.90x1.63mm, Pitch 0.65mm, IPC High Density, Recommended)
pins: 1 OUT (out) "Analog Output. This is the output of an internal operational amplifier and swings to near the power supply rails (V+ and V-) as specified in the Electrical Characteristics table.", 2 AGND (power) "Analog Ground. The AGND pin is at the midpoint of an internal resistive voltage divider, develop- ing a potential halfway between the V+ and V- pins, with an equivalent series resistance to the pin of nominally 5k ohm.", 3 IN (in) "Analog Input. The input signal to the amplifier in the LTC6910-X is the voltage difference between the IN and AGND pins.", 4 V- (power) "Power Supply Pin.", 5 G0 (in) "CMOS-Level Digital Gain- Control Input.", 6 G1 (in) "CMOS-Level Digital Gain- Control Input.", 7 G2 (in) "CMOS-Level Digital Gain- Control Input.", 8 V+ (power) "Power Supply Pin."